# EAGLE library part MKS1867-6-0-1717 (library con-stocko)
Serie MKS 1850 Lötstifte In-line, Raster 2.5 mm, Stiftwannen, stehend, mit Rastlasche Source: http://www.stocko.de/de/index.php?seite=ka_rfk2_mks1850.html&rubrik=Katalog+-+RFK+2 rfk_1850.pdf
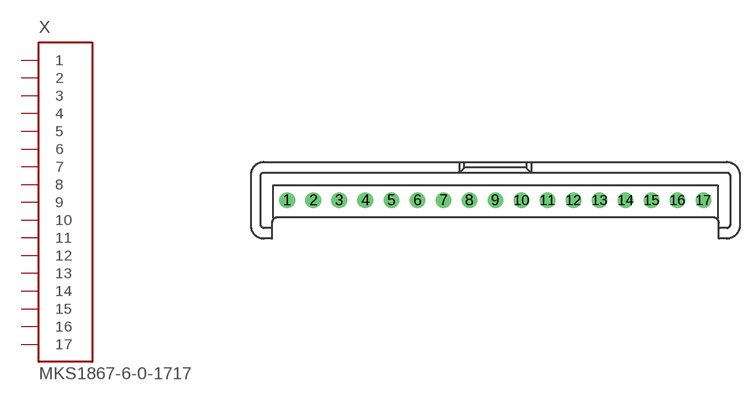
[diagram p11: symbol with the pads of MKS1867-6-0-1717; footprint MKS1867-6-0-1717]

Designator prefix X

## MKS1867-6-0-1717  [MKS1867-6-0-1717]
1  1  in
2  2  in
3  3  in
4  4  in
5  5  in
6  6  in
7  7  in
8  8  in
9  9  in
10  10  in
11  11  in
12  12  in
13  13  in
14  14  in
15  15  in
16  16  in
17  17  in

## Footprint MKS1867-6-0-1717 (pad centres in mm)
Serie MKS 1850 Lötstifte In-line, Raster 2.5 mm, Stiftwannen, stehend, mit Rastlasche Source: http://www.stocko.de/de/index.php?seite=ka_rfk2_mks1850.html&rubrik=Katalog+-+RFK+2 rfk_1850.pdf
drill 1 pad 1.422 round: 1 -20,0; 2 -17.5,0; 3 -15,0; 4 -12.5,0; 5 -10,0; 6 -7.5,0; 7 -5,0; 8 -2.5,0; 9 0,0; 10 2.5,0; 11 5,0; 12 7.5,0; 13 10,0; 14 12.5,0; 15 15,0; 16 17.5,0; 17 20,0